# Altium footprint library PH2.54.PcbLib: 15 footprints
Each footprint in its own frame and in the unit in brackets; x right, y up, seen from the top. Pads: shape width x height; smd on the part's side, far side on the other; paste and mask are expansions set on the pad; w line width, h text height; cw(c..) or ccw(c..) is an arc to the next point about the centre after c.
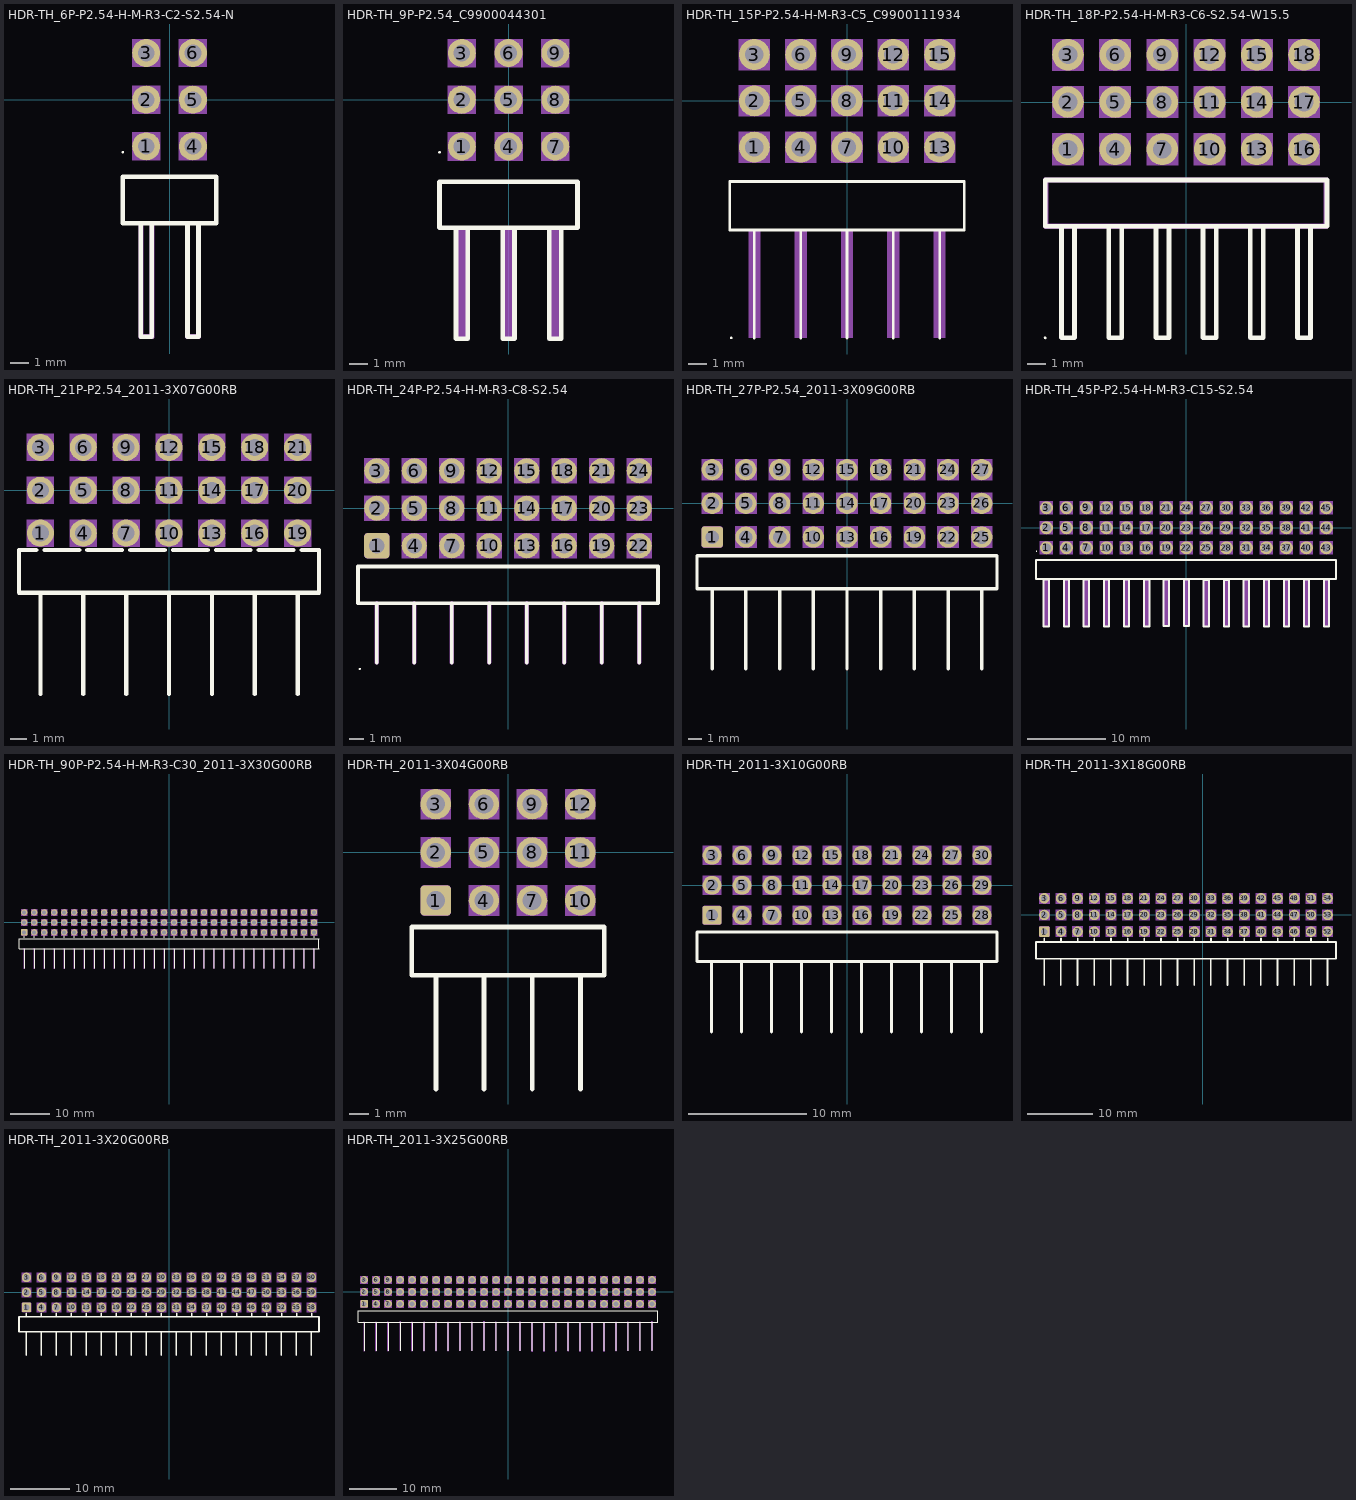
[diagram p0: the footprints below, top view; thin cyan lines are the x and y axes]

## HDR-TH_6P-P2.54-H-M-R3-C2-S2.54-N [mil] "2.54-3*2P; HDR 3x2; TH-3*2P-2.54"
height -35795.73
pads (6):
  round 60 hole 36 mask+1.97: 1(-50,-100) 2(-50,0) 3(-50,100) 4(50,-100) 5(50,0) 6(50,100)
Top Overlay:
  region: -97.64,-112.6 -97.68,-113.06 -97.82,-113.5 -98.04,-113.91 -98.33,-114.27 -98.69,-114.56 -99.1,-114.78 -99.54,-114.92 -100,-114.96 -100.46,-114.92 -100.9,-114.78 -101.31,-114.56 -101.67,-114.27 -101.96,-113.91 -102.18,-113.5 -102.32,-113.06 -102.36,-112.6 -102.32,-112.14 -102.18,-111.7 -101.96,-111.29 -101.67,-110.93 -101.31,-110.64 -100.9,-110.42 -100.46,-110.28 -100,-110.24 -99.54,-110.28 -99.1,-110.42 -98.69,-110.64 -98.33,-110.93 -98.04,-111.29 -97.82,-111.7 -97.68,-112.14
  lines w10: -61.42,-267.71 -61.42,-507.87 -37.8,-507.87 -37.8,-267.71 ; 38.58,-267.71 38.58,-507.87 62.2,-507.87 62.2,-267.71 ; -100,-265 -100,-165 100,-165 100,-265 -100,-265
Mechanical 2:
  drawing of 2 lines, arcs and shapes, not listed
Mechanical 9:
  region: -80,70 -20,70 -20,130 -80,130
  region: 20,70 80,70 80,130 20,130
  region: 20,-30 80,-30 80,30 20,30
  region: -80,-30 -20,-30 -20,30 -80,30
  region: -80,-130 -20,-130 -20,-70 -80,-70
  region: 20,-130 80,-130 80,-70 20,-70

## HDR-TH_9P-P2.54_C9900044301 [mil] "TH-3*3P-2.54; &#25554;&#20214;,P=2.54mm"
height -35795.73
pads (9):
  round 60 hole 36 mask+1.97: 1(-100,-100) 2(-100,0) 3(-100,100) 4(0,-100) 5(0,0) 6(0,100) 7(100,-100) 8(100,0) 9(100,100)
Top Overlay:
  region: -150,-112.59 -149.96,-113.05 -149.82,-113.49 -149.6,-113.9 -149.31,-114.26 -148.95,-114.55 -148.54,-114.77 -148.1,-114.9 -147.64,-114.95 -147.18,-114.9 -146.74,-114.77 -146.33,-114.55 -145.97,-114.26 -145.68,-113.9 -145.46,-113.49 -145.33,-113.05 -145.28,-112.59 -145.33,-112.13 -145.46,-111.68 -145.68,-111.28 -145.97,-110.92 -146.33,-110.62 -146.74,-110.41 -147.18,-110.27 -147.64,-110.23 -148.1,-110.27 -148.54,-110.41 -148.95,-110.62 -149.31,-110.92 -149.6,-111.28 -149.82,-111.68 -149.96,-112.13
  lines w10: -112.6,-274.8 -112.6,-511.02 -87.4,-511.02 -87.4,-274.41 ; -12.6,-274.8 -12.6,-511.02 12.6,-511.02 12.6,-274.41 ; 87.4,-274.8 87.4,-511.02 112.6,-511.02 112.6,-274.41 ; -147.64,-273.63 -147.64,-175.2 147.64,-175.2 147.64,-273.63 -147.64,-273.63
Mechanical 2:
  region: 87.8,-275.6 87.8,-511.82 113.39,-511.82 113.39,-275.6
  region: -12.2,-275.59 -12.2,-511.82 13.39,-511.82 13.39,-275.59
  region: -112.2,-275.59 -112.2,-511.81 -86.61,-511.81 -86.61,-275.59
Mechanical 9:
  region: -70,-130 -70,-70 -130,-70 -130,-130
  region: 30,-130 30,-70 -30,-70 -30,-130
  region: 130,-130 130,-70 70,-70 70,-130
  region: -70,-30 -70,30 -130,30 -130,-30
  region: 30,-30 30,30 -30,30 -30,-30
  region: 130,-30 130,30 70,30 70,-30
  region: -70,70 -70,130 -130,130 -130,70
  region: 30,70 30,130 -30,130 -30,70
  region: 130,70 130,130 70,130 70,70
3D body "HDR-TH_9P-P2.54_C9900044301.step": height 39.37, standoff 0, extent -147.64,-274.8 147.64,-174.8

## HDR-TH_15P-P2.54-H-M-R3-C5_C9900111934 [mm] "HDR-TH_15P-P2.54-H-M-R3-C5_C9900111934"
height -909.212
pads (15):
  round 1.7 hole 1 mask+0.05: 1(-5.08,-2.54) 2(-5.08,0) 3(-5.08,2.54) 4(-2.54,-2.54) 5(-2.54,0) 6(-2.54,2.54) 7(0,-2.54) 8(0,0) 9(0,2.54) 10(2.54,-2.54) 11(2.54,0) 12(2.54,2.54) 13(5.08,-2.54) 14(5.08,0) 15(5.08,2.54)
Top Overlay:
  region: -6.29,-13 -6.291,-12.988 -6.295,-12.977 -6.3,-12.967 -6.308,-12.958 -6.317,-12.95 -6.327,-12.945 -6.338,-12.941 -6.35,-12.94 -6.362,-12.941 -6.373,-12.945 -6.383,-12.95 -6.392,-12.958 -6.4,-12.967 -6.405,-12.977 -6.409,-12.988 -6.41,-13 -6.409,-13.012 -6.405,-13.023 -6.4,-13.033 -6.392,-13.042 -6.383,-13.05 -6.373,-13.055 -6.362,-13.059 -6.35,-13.06 -6.338,-13.059 -6.327,-13.055 -6.317,-13.05 -6.308,-13.042 -6.3,-13.033 -6.295,-13.023 -6.291,-13.012
  lines w0.152: -5.08,-13 -5.08,-7.152 ; -2.54,-13 -2.54,-7.152 ; 0,-13 0,-7.152 ; 2.54,-13 2.54,-7.152 ; 5.08,-13 5.08,-7.152 ; -6.426,-7.076 -6.426,-4.424 6.426,-4.424 6.426,-7.076 -6.426,-7.076
Mechanical 2:
  region: 4.76,-7.16 4.76,-13 5.4,-13 5.4,-7.16
  region: 2.22,-7.16 2.22,-13 2.86,-13 2.86,-7.16
  region: -0.32,-7.16 -0.32,-13 0.32,-13 0.32,-7.16
  region: -2.86,-7.16 -2.86,-13 -2.22,-13 -2.22,-7.16
  region: -5.4,-7.16 -5.4,-13 -4.76,-13 -4.76,-7.16
Mechanical 9:
  region: 4.23,1.69 5.93,1.69 5.93,3.39 4.23,3.39
  region: 4.23,-0.85 5.93,-0.85 5.93,0.85 4.23,0.85
  region: 4.23,-3.39 5.93,-3.39 5.93,-1.69 4.23,-1.69
  region: 1.69,1.69 3.39,1.69 3.39,3.39 1.69,3.39
  region: 1.69,-0.85 3.39,-0.85 3.39,0.85 1.69,0.85
  region: 1.69,-3.39 3.39,-3.39 3.39,-1.69 1.69,-1.69
  region: -0.85,1.69 0.85,1.69 0.85,3.39 -0.85,3.39
  region: -0.85,-0.85 0.85,-0.85 0.85,0.85 -0.85,0.85
  region: -0.85,-3.39 0.85,-3.39 0.85,-1.69 -0.85,-1.69
  region: -3.39,1.69 -1.69,1.69 -1.69,3.39 -3.39,3.39
  region: -3.39,-0.85 -1.69,-0.85 -1.69,0.85 -3.39,0.85
  region: -3.39,-3.39 -1.69,-3.39 -1.69,-1.69 -3.39,-1.69
  region: -5.93,1.69 -4.23,1.69 -4.23,3.39 -5.93,3.39
  region: -5.93,-0.85 -4.23,-0.85 -4.23,0.85 -5.93,0.85
  region: -5.93,-3.39 -4.23,-3.39 -4.23,-1.69 -5.93,-1.69
3D body "HDR-TH_15P-P2.54-H-M-R3-C5_C9900111934.step": height 1, standoff 0, extent -6.35,-7 6.35,-4.5

## HDR-TH_18P-P2.54-H-M-R3-C6-S2.54-W15.5 [mm] "TH-3*6P-2.54"
height -909.212
pads (18):
  round 1.7 hole 1 mask+0.05: 1(-6.35,-2.54) 2(-6.35,0) 3(-6.35,2.54) 4(-3.81,-2.54) 5(-3.81,0) 6(-3.81,2.54) 7(-1.27,-2.54) 8(-1.27,0) 9(-1.27,2.54) 10(1.27,-2.54) 11(1.27,0) 12(1.27,2.54) 13(3.81,-2.54) 14(3.81,0) 15(3.81,2.54) 16(6.35,-2.54) 17(6.35,0) 18(6.35,2.54)
Top Overlay:
  region: -7.52,-12.69 -7.521,-12.678 -7.524,-12.667 -7.53,-12.657 -7.537,-12.648 -7.547,-12.64 -7.557,-12.635 -7.568,-12.631 -7.58,-12.63 -7.592,-12.631 -7.603,-12.635 -7.613,-12.64 -7.622,-12.648 -7.63,-12.657 -7.635,-12.667 -7.639,-12.678 -7.64,-12.69 -7.639,-12.702 -7.635,-12.713 -7.63,-12.723 -7.622,-12.732 -7.613,-12.74 -7.603,-12.745 -7.592,-12.749 -7.58,-12.75 -7.568,-12.749 -7.557,-12.745 -7.547,-12.74 -7.537,-12.732 -7.53,-12.723 -7.524,-12.713 -7.521,-12.702
  lines w0.254: -6.7,-6.69 -6.7,-12.69 -6,-12.69 -6,-6.69 ; -4.16,-6.69 -4.16,-12.69 -3.46,-12.69 -3.46,-6.69 ; -1.62,-6.69 -1.62,-12.69 -0.92,-12.69 -0.92,-6.69 ; 0.92,-6.69 0.92,-12.69 1.62,-12.69 1.62,-6.69 ; 3.46,-6.69 3.46,-12.69 4.16,-12.69 4.16,-6.69 ; 6,-6.69 6,-12.69 6.7,-12.69 6.7,-6.69 ; -7.58,-6.69 7.58,-6.69 7.58,-4.19 -7.58,-4.19 -7.58,-6.69
Mechanical 2:
  region: -7.55,-6.563 7.423,-6.563 7.423,-4.317 -7.55,-4.317 -7.572,-4.315 -7.593,-4.309 -7.613,-4.3 -7.632,-4.287 -7.647,-4.272 -7.66,-4.253 -7.669,-4.233 -7.675,-4.212 -7.677,-4.19 -7.675,-4.168 -7.669,-4.147 -7.66,-4.126 -7.647,-4.108 -7.632,-4.093 -7.613,-4.08 -7.593,-4.071 -7.572,-4.065 -7.55,-4.063 7.55,-4.063 7.572,-4.065 7.593,-4.071 7.613,-4.08 7.632,-4.093 7.647,-4.108 7.66,-4.126 7.669,-4.147 7.675,-4.168 7.677,-4.19 7.677,-6.69 7.675,-6.712 7.669,-6.733 7.66,-6.753 7.647,-6.772 7.632,-6.787 7.613,-6.8 7.593,-6.809 7.572,-6.815 7.55,-6.817 -7.55,-6.817 -7.572,-6.815 -7.593,-6.809 -7.613,-6.8 -7.632,-6.787 -7.647,-6.772 -7.66,-6.753 -7.669,-6.733 -7.675,-6.712 -7.677,-6.69 -7.675,-6.668 -7.669,-6.647 -7.66,-6.626 -7.647,-6.608 -7.632,-6.593 -7.613,-6.58 -7.593,-6.571 -7.572,-6.565
  region: -7.423,-4.19 -7.423,-6.69 -7.425,-6.712 -7.431,-6.733 -7.44,-6.753 -7.453,-6.772 -7.468,-6.787 -7.486,-6.8 -7.507,-6.809 -7.528,-6.815 -7.55,-6.817 -7.572,-6.815 -7.593,-6.809 -7.613,-6.8 -7.632,-6.787 -7.647,-6.772 -7.66,-6.753 -7.669,-6.733 -7.675,-6.712 -7.677,-6.69 -7.677,-4.19 -7.675,-4.168 -7.669,-4.147 -7.66,-4.126 -7.647,-4.108 -7.632,-4.093 -7.613,-4.08 -7.593,-4.071 -7.572,-4.065 -7.55,-4.063 -7.528,-4.065 -7.507,-4.071 -7.486,-4.08 -7.468,-4.093 -7.453,-4.108 -7.44,-4.126 -7.431,-4.147 -7.425,-4.168
Mechanical 9:
  region: -7.2,-3.39 -5.5,-3.39 -5.5,-1.69 -7.2,-1.69
  region: -7.2,-0.85 -5.5,-0.85 -5.5,0.85 -7.2,0.85
  region: -7.2,1.69 -5.5,1.69 -5.5,3.39 -7.2,3.39
  region: -4.66,-3.39 -2.96,-3.39 -2.96,-1.69 -4.66,-1.69
  region: -4.66,-0.85 -2.96,-0.85 -2.96,0.85 -4.66,0.85
  region: -4.66,1.69 -2.96,1.69 -2.96,3.39 -4.66,3.39
  region: -2.12,-3.39 -0.42,-3.39 -0.42,-1.69 -2.12,-1.69
  region: -2.12,-0.85 -0.42,-0.85 -0.42,0.85 -2.12,0.85
  region: -2.12,1.69 -0.42,1.69 -0.42,3.39 -2.12,3.39
  region: 0.42,-3.39 2.12,-3.39 2.12,-1.69 0.42,-1.69
  region: 0.42,-0.85 2.12,-0.85 2.12,0.85 0.42,0.85
  region: 0.42,1.69 2.12,1.69 2.12,3.39 0.42,3.39
  region: 2.96,-3.39 4.66,-3.39 4.66,-1.69 2.96,-1.69
  region: 2.96,-0.85 4.66,-0.85 4.66,0.85 2.96,0.85
  region: 2.96,1.69 4.66,1.69 4.66,3.39 2.96,3.39
  region: 5.5,-3.39 7.2,-3.39 7.2,-1.69 5.5,-1.69
  region: 5.5,-0.85 7.2,-0.85 7.2,0.85 5.5,0.85
  region: 5.5,1.69 7.2,1.69 7.2,3.39 5.5,3.39
3D body "HDR-TH_18P-P2.54-H-M-R3-C6-S2.54-W15.5.step": height 1, standoff 0, extent -7.58,-6.69 7.58,-4.19

## HDR-TH_21P-P2.54_2011-3X07G00RB [mm] "HDR-TH_21P-P2.54_2011-3X07G00RB"
height -909.212
pads (21):
  round 1.6 hole 1 mask+0.05: 1(-7.62,-2.54) 2(-7.62,0) 3(-7.62,2.54) 4(-5.08,-2.54) 5(-5.08,0) 6(-5.08,2.54) 7(-2.54,-2.54) 8(-2.54,0) 9(-2.54,2.54) 10(0,-2.54) 11(0,0) 12(0,2.54) 13(2.54,-2.54) 14(2.54,0) 15(2.54,2.54) 16(5.08,-2.54) 17(5.08,0) 18(5.08,2.54) 19(7.62,-2.54) 20(7.62,0) 21(7.62,2.54)
Top Overlay:
  lines w0.254: -7.863,-3.54 -8.89,-3.54 -8.89,-6.08 8.89,-6.08 8.89,-3.54 7.863,-3.54 ; -7.614,-12.08 -7.614,-6.08 ; -7.377,-3.54 -5.323,-3.54 ; -5.074,-12.08 -5.074,-6.08 ; -4.837,-3.54 -2.783,-3.54 ; -2.534,-12.08 -2.534,-6.08 ; -2.297,-3.54 -0.243,-3.54 ; 0.006,-12.08 0.006,-6.08 ; 0.243,-3.54 2.297,-3.54 ; 2.546,-12.08 2.546,-6.08 ; 2.783,-3.54 4.837,-3.54 ; 5.086,-12.08 5.086,-6.08 ; 5.323,-3.54 7.377,-3.54 ; 7.626,-12.08 7.626,-6.08
Mechanical 9:
  region: 6.82,1.74 8.42,1.74 8.42,3.34 6.82,3.34
  region: 6.82,-0.8 8.42,-0.8 8.42,0.8 6.82,0.8
  region: 6.82,-3.34 8.42,-3.34 8.42,-1.74 6.82,-1.74
  region: 4.28,1.74 5.88,1.74 5.88,3.34 4.28,3.34
  region: 4.28,-0.8 5.88,-0.8 5.88,0.8 4.28,0.8
  region: 4.28,-3.34 5.88,-3.34 5.88,-1.74 4.28,-1.74
  region: 1.74,1.74 3.34,1.74 3.34,3.34 1.74,3.34
  region: 1.74,-0.8 3.34,-0.8 3.34,0.8 1.74,0.8
  region: 1.74,-3.34 3.34,-3.34 3.34,-1.74 1.74,-1.74
  region: -0.8,1.74 0.8,1.74 0.8,3.34 -0.8,3.34
  region: -0.8,-0.8 0.8,-0.8 0.8,0.8 -0.8,0.8
  region: -0.8,-3.34 0.8,-3.34 0.8,-1.74 -0.8,-1.74
  region: -3.34,1.74 -1.74,1.74 -1.74,3.34 -3.34,3.34
  region: -3.34,-0.8 -1.74,-0.8 -1.74,0.8 -3.34,0.8
  region: -3.34,-3.34 -1.74,-3.34 -1.74,-1.74 -3.34,-1.74
  region: -5.88,1.74 -4.28,1.74 -4.28,3.34 -5.88,3.34
  region: -5.88,-0.8 -4.28,-0.8 -4.28,0.8 -5.88,0.8
  region: -5.88,-3.34 -4.28,-3.34 -4.28,-1.74 -5.88,-1.74
  region: -8.42,1.74 -6.82,1.74 -6.82,3.34 -8.42,3.34
  region: -8.42,-0.8 -6.82,-0.8 -6.82,0.8 -8.42,0.8
  region: -8.42,-3.34 -6.82,-3.34 -6.82,-1.74 -8.42,-1.74

## HDR-TH_24P-P2.54-H-M-R3-C8-S2.54 [mm] "HDR-TH_24P-P2.54-H-M-R3-C8-S2.54"
height -909.212
pads (24):
  rrect25% 1.7x1.7 hole 1.02 mask+0.05: 1(-8.89,-2.54)
  round 1.7 hole 1.02 mask+0.05: 2(-8.89,0) 3(-8.89,2.54) 4(-6.35,-2.54) 5(-6.35,0) 6(-6.35,2.54) 7(-3.81,-2.54) 8(-3.81,0) 9(-3.81,2.54) 10(-1.27,-2.54) 11(-1.27,0) 12(-1.27,2.54) 13(1.27,-2.54) 14(1.27,0) 15(1.27,2.54) 16(3.81,-2.54) 17(3.81,0) 18(3.81,2.54) 19(6.35,-2.54) 20(6.35,0) 21(6.35,2.54) 22(8.89,-2.54) 23(8.89,0) 24(8.89,2.54)
Top Overlay:
  region: -9.975,-10.88 -9.976,-10.868 -9.98,-10.857 -9.985,-10.847 -9.993,-10.838 -10.002,-10.83 -10.012,-10.825 -10.023,-10.821 -10.035,-10.82 -10.047,-10.821 -10.058,-10.825 -10.068,-10.83 -10.077,-10.838 -10.085,-10.847 -10.09,-10.857 -10.094,-10.868 -10.095,-10.88 -10.094,-10.892 -10.09,-10.903 -10.085,-10.913 -10.077,-10.922 -10.068,-10.93 -10.058,-10.935 -10.047,-10.939 -10.035,-10.94 -10.023,-10.939 -10.012,-10.935 -10.002,-10.93 -9.993,-10.922 -9.985,-10.913 -9.98,-10.903 -9.976,-10.892
  lines w0.254: -8.892,-10.44 -8.892,-6.44 ; -6.352,-10.44 -6.352,-6.44 ; -3.812,-10.44 -3.812,-6.44 ; -1.272,-10.44 -1.272,-6.44 ; 1.268,-10.44 1.268,-6.44 ; 3.808,-10.44 3.808,-6.44 ; 6.348,-10.44 6.348,-6.44 ; 8.888,-10.44 8.888,-6.44 ; -10.16,-6.44 -10.16,-3.94 10.16,-3.94 10.16,-6.44 -10.16,-6.44
Mechanical 2:
  drawing of 8 lines, arcs and shapes, not listed
Mechanical 9:
  drawing of 24 lines, arcs and shapes, not listed
3D body "HDR-TH_24P-P2.54-H-M-R3-C8-S2.54.step": height 1, standoff 0, extent -10.035,-6.44 10.035,-3.94

## HDR-TH_27P-P2.54_2011-3X09G00RB [mm] "HDR-TH_27P-P2.54_2011-3X09G00RB"
height -909.212
pads (27):
  rrect25% 1.6x1.6 hole 1.02 mask+0.05: 1(-10.16,-2.54)
  round 1.6 hole 1.02 mask+0.05: 2(-10.16,0) 3(-10.16,2.54) 4(-7.62,-2.54) 5(-7.62,0) 6(-7.62,2.54) 7(-5.08,-2.54) 8(-5.08,0) 9(-5.08,2.54) 10(-2.54,-2.54) 11(-2.54,0) 12(-2.54,2.54) 13(0,-2.54) 14(0,0) 15(0,2.54) 16(2.54,-2.54) 17(2.54,0) 18(2.54,2.54) 19(5.08,-2.54) 20(5.08,0) 21(5.08,2.54) 22(7.62,-2.54) 23(7.62,0) 24(7.62,2.54) 25(10.16,-2.54) 26(10.16,0) 27(10.16,2.54)
Top Overlay:
  lines w0.254: -10.16,-12.48 -10.16,-6.48 ; -7.62,-12.48 -7.62,-6.48 ; -5.08,-12.48 -5.08,-6.48 ; -2.54,-12.48 -2.54,-6.48 ; 0,-12.48 0,-6.48 ; 2.54,-12.48 2.54,-6.48 ; 5.08,-12.48 5.08,-6.48 ; 7.62,-12.48 7.62,-6.48 ; 10.16,-12.48 10.16,-6.48 ; -11.305,-6.44 -11.305,-3.94 11.305,-3.94 11.305,-6.44 -11.305,-6.44
Mechanical 9:
  drawing of 27 lines, arcs and shapes, not listed

## HDR-TH_45P-P2.54-H-M-R3-C15-S2.54 [mm] "3*15 2.54 3&#25490;&#24367;&#38024;; dip45-2_54"
height -909.212
pads (45):
  round 1.65 hole 1.1 mask+0.05: 1(-17.78,-2.54) 2(-17.78,0) 3(-17.78,2.54) 4(-15.24,-2.54) 5(-15.24,0) 6(-15.24,2.54) 7(-12.7,-2.54) 8(-12.7,0) 9(-12.7,2.54) 10(-10.16,-2.54) 11(-10.16,0) 12(-10.16,2.54) 13(-7.62,-2.54) 14(-7.62,0) 15(-7.62,2.54) 16(-5.08,-2.54) 17(-5.08,0) 18(-5.08,2.54) 19(-2.54,-2.54) 20(-2.54,0) 21(-2.54,2.54) 22(0,-2.54) 23(0,0) 24(0,2.54) 25(2.54,-2.54) 26(2.54,0) 27(2.54,2.54) 28(5.08,-2.54) 29(5.08,0) 30(5.08,2.54) 31(7.62,-2.54) 32(7.62,0) 33(7.62,2.54) 34(10.16,-2.54) 35(10.16,0) 36(10.16,2.54) 37(12.7,-2.54) 38(12.7,0) 39(12.7,2.54) 40(15.24,-2.54) 41(15.24,0) 42(15.24,2.54) 43(17.78,-2.54) 44(17.78,0) 45(17.78,2.54)
Top Overlay:
  region: -18.99,-2.995 -18.991,-2.984 -18.995,-2.972 -19,-2.962 -19.008,-2.953 -19.017,-2.946 -19.027,-2.94 -19.038,-2.937 -19.05,-2.935 -19.062,-2.937 -19.073,-2.94 -19.083,-2.946 -19.092,-2.953 -19.1,-2.962 -19.105,-2.972 -19.109,-2.984 -19.11,-2.995 -19.109,-3.007 -19.105,-3.018 -19.1,-3.029 -19.092,-3.038 -19.083,-3.045 -19.073,-3.051 -19.062,-3.054 -19.05,-3.055 -19.038,-3.054 -19.027,-3.051 -19.017,-3.045 -19.008,-3.038 -19,-3.029 -18.995,-3.018 -18.991,-3.007
  lines w0.254: -19.1,-6.505 -19.1,-4.105 19,-4.105 19,-6.505 -19,-6.505 ; -18.13,-12.545 -17.47,-12.545 -17.47,-6.585 -18.13,-6.585 -18.13,-12.545 ; -15.57,-12.545 -14.89,-12.545 -14.89,-6.585 -15.57,-6.585 -15.57,-12.545 ; -13.05,-12.525 -12.39,-12.525 -12.39,-6.565 -13.05,-6.565 -13.05,-12.525 ; -10.49,-12.525 -9.81,-12.525 -9.81,-6.565 -10.49,-6.565 -10.49,-12.525 ; -7.95,-12.525 -7.29,-12.525 -7.29,-6.565 -7.95,-6.565 -7.95,-12.525 ; -5.39,-12.525 -4.71,-12.525 -4.71,-6.565 -5.39,-6.565 -5.39,-12.525 ; -2.89,-12.505 -2.23,-12.505 -2.23,-6.545 -2.89,-6.545 -2.89,-12.505 ; -0.33,-12.505 0.35,-12.505 0.35,-6.545 -0.33,-6.545 -0.33,-12.505 ; 2.19,-12.565 2.85,-12.565 2.85,-6.605 2.19,-6.605 2.19,-12.565 ; 4.75,-12.565 5.43,-12.565 5.43,-6.605 4.75,-6.605 4.75,-12.565 ; 7.27,-12.545 7.93,-12.545 7.93,-6.585 7.27,-6.585 7.27,-12.545 ; 9.83,-12.545 10.51,-12.545 10.51,-6.585 9.83,-6.585 9.83,-12.545 ; 12.37,-12.545 13.05,-12.545 13.05,-6.585 12.37,-6.585 12.37,-12.545 ; 14.91,-12.545 15.59,-12.545 15.59,-6.585 14.91,-6.585 14.91,-12.545 ; 17.45,-12.545 18.13,-12.545 18.13,-6.585 17.45,-6.585 17.45,-12.545
Mechanical 2:
  region: -18.11,-12.505 -17.51,-12.505 -17.51,-6.605 -18.11,-6.605
  region: -15.57,-12.505 -14.97,-12.505 -14.97,-6.605 -15.57,-6.605
  region: -13.03,-12.505 -12.43,-12.505 -12.43,-6.605 -13.03,-6.605
  region: -10.49,-12.505 -9.89,-12.505 -9.89,-6.605 -10.49,-6.605
  region: -7.95,-12.505 -7.35,-12.505 -7.35,-6.605 -7.95,-6.605
  region: -5.41,-12.505 -4.81,-12.505 -4.81,-6.605 -5.41,-6.605
  region: -2.87,-12.505 -2.27,-12.505 -2.27,-6.605 -2.87,-6.605
  region: -0.33,-12.505 0.27,-12.505 0.27,-6.605 -0.33,-6.605
  region: 2.21,-12.505 2.81,-12.505 2.81,-6.605 2.21,-6.605
  region: 4.75,-12.505 5.35,-12.505 5.35,-6.605 4.75,-6.605
  region: 7.29,-12.505 7.89,-12.505 7.89,-6.605 7.29,-6.605
  region: 9.83,-12.505 10.43,-12.505 10.43,-6.605 9.83,-6.605
  region: 12.37,-12.505 12.97,-12.505 12.97,-6.605 12.37,-6.605
  region: 14.91,-12.505 15.51,-12.505 15.51,-6.605 14.91,-6.605
  region: 17.45,-12.505 18.05,-12.505 18.05,-6.605 17.45,-6.605
Mechanical 9:
  drawing of 45 lines, arcs and shapes, not listed

## HDR-TH_90P-P2.54-H-M-R3-C30_2011-3X30G00RB [mm] "HDR-TH_90P-P2.54-H-M-R3-C30_2011-3X30G00RB"
height -909.212
pads (90):
  rrect25% 1.6x1.6 hole 1.02 mask+0.05: 1(-36.83,-2.54)
  round 1.6 hole 1.02 mask+0.05: 2(-36.83,0) 3(-36.83,2.54) 4(-34.29,-2.54) 5(-34.29,0) 6(-34.29,2.54) 7(-31.75,-2.54) 8(-31.75,0) 9(-31.75,2.54) 10(-29.21,-2.54) 11(-29.21,0) 12(-29.21,2.54) 13(-26.67,-2.54) 14(-26.67,0) 15(-26.67,2.54) 16(-24.13,-2.54) 17(-24.13,0) 18(-24.13,2.54) 19(-21.59,-2.54) 20(-21.59,0) 21(-21.59,2.54) 22(-19.05,-2.54) 23(-19.05,0) 24(-19.05,2.54) 25(-16.51,-2.54) 26(-16.51,0) 27(-16.51,2.54) 28(-13.97,-2.54) 29(-13.97,0) 30(-13.97,2.54) 31(-11.43,-2.54) 32(-11.43,0) 33(-11.43,2.54) 34(-8.89,-2.54) 35(-8.89,0) 36(-8.89,2.54) 37(-6.35,-2.54) 38(-6.35,0) 39(-6.35,2.54) 40(-3.81,-2.54) 41(-3.81,0) 42(-3.81,2.54) 43(-1.27,-2.54) 44(-1.27,0) 45(-1.27,2.54) 46(1.27,-2.54) 47(1.27,0) 48(1.27,2.54) 49(3.81,-2.54) 50(3.81,0) 51(3.81,2.54) 52(6.35,-2.54) 53(6.35,0) 54(6.35,2.54) 55(8.89,-2.54) 56(8.89,0) 57(8.89,2.54) 58(11.43,-2.54) 59(11.43,0) 60(11.43,2.54) 61(13.97,-2.54) 62(13.97,0) 63(13.97,2.54) 64(16.51,-2.54) 65(16.51,0) 66(16.51,2.54) 67(19.05,-2.54) 68(19.05,0) 69(19.05,2.54) 70(21.59,-2.54) 71(21.59,0) 72(21.59,2.54) 73(24.13,-2.54) 74(24.13,0) 75(24.13,2.54) 76(26.67,-2.54) 77(26.67,0) 78(26.67,2.54) 79(29.21,-2.54) 80(29.21,0) 81(29.21,2.54) 82(31.75,-2.54) 83(31.75,0) 84(31.75,2.54) 85(34.29,-2.54) 86(34.29,0) 87(34.29,2.54) 88(36.83,-2.54) 89(36.83,0) 90(36.83,2.54)
Top Overlay:
  region: -38.04,-11.664 -38.041,-11.652 -38.045,-11.641 -38.05,-11.631 -38.058,-11.622 -38.067,-11.614 -38.077,-11.609 -38.088,-11.605 -38.1,-11.604 -38.112,-11.605 -38.123,-11.609 -38.133,-11.614 -38.142,-11.622 -38.15,-11.631 -38.155,-11.641 -38.159,-11.652 -38.16,-11.664 -38.159,-11.676 -38.155,-11.687 -38.15,-11.697 -38.142,-11.706 -38.133,-11.714 -38.123,-11.719 -38.112,-11.723 -38.1,-11.724 -38.088,-11.723 -38.077,-11.719 -38.067,-11.714 -38.058,-11.706 -38.05,-11.697 -38.045,-11.687 -38.041,-11.676
  lines w0.254: -36.853,-11.664 -36.853,-6.664 ; -36.83,-3.937 -36.83,-3.571 ; -34.313,-11.664 -34.313,-6.664 ; -34.29,-3.937 -34.29,-3.571 ; -31.773,-11.664 -31.773,-6.664 ; -31.75,-3.937 -31.75,-3.571 ; -29.234,-11.664 -29.234,-6.664 ; -29.21,-3.937 -29.21,-3.571 ; -26.694,-11.664 -26.694,-6.664 ; -26.67,-3.937 -26.67,-3.571 ; -24.154,-11.664 -24.154,-6.664 ; -24.13,-3.937 -24.13,-3.571 ; -21.614,-11.664 -21.614,-6.664 ; -21.59,-3.937 -21.59,-3.571 ; -19.074,-11.664 -19.074,-6.664 ; -19.05,-3.937 -19.05,-3.571 ; -16.534,-11.664 -16.534,-6.664 ; -16.51,-3.937 -16.51,-3.571 ; -13.994,-11.664 -13.994,-6.664 ; -13.97,-3.937 -13.97,-3.571 ; -11.454,-11.664 -11.454,-6.664 ; -11.43,-3.937 -11.43,-3.571 ; -8.914,-11.664 -8.914,-6.664 ; -8.89,-3.937 -8.89,-3.571 ; -6.374,-11.664 -6.374,-6.664 ; -6.35,-3.937 -6.35,-3.571 ; -3.834,-11.664 -3.834,-6.664 ; -3.81,-3.937 -3.81,-3.571 ; -1.294,-11.664 -1.294,-6.664 ; -1.27,-3.937 -1.27,-3.571 ; 1.246,-11.664 1.246,-6.664 ; 1.27,-3.937 1.27,-3.571 ; 3.786,-11.664 3.786,-6.664 ; 3.81,-3.937 3.81,-3.571 ; 6.326,-11.664 6.326,-6.664 ; 6.35,-3.937 6.35,-3.571 ; 8.866,-11.664 8.866,-6.664 ; 8.89,-3.937 8.89,-3.571 ; 11.406,-11.664 11.406,-6.664 ; 11.43,-3.937 11.43,-3.571 ; 13.946,-11.664 13.946,-6.664 ; 13.97,-3.937 13.97,-3.571 ; 16.486,-11.664 16.486,-6.664 ; 16.51,-3.937 16.51,-3.571 ; 19.026,-11.664 19.026,-6.664 ; 19.05,-3.937 19.05,-3.571 ; 21.566,-11.664 21.566,-6.664 ; 21.59,-3.937 21.59,-3.571 ; 24.106,-11.664 24.106,-6.664 ; 24.13,-3.937 24.13,-3.571 ; 26.646,-11.664 26.646,-6.664 ; 26.67,-3.937 26.67,-3.571 ; 29.186,-11.664 29.186,-6.664 ; 29.21,-3.937 29.21,-3.571 ; 31.726,-11.664 31.726,-6.664 ; 31.75,-3.937 31.75,-3.571 ; 34.266,-11.664 34.266,-6.664 ; 34.29,-3.937 34.29,-3.571 ; 36.806,-11.664 36.806,-6.664 ; 36.83,-3.937 36.83,-3.571 ; -38.1,-6.664 38.1,-6.664 38.1,-4.124 -38.1,-4.124 -38.1,-6.664
Mechanical 2:
  drawing of 30 lines, arcs and shapes, not listed
Mechanical 9:
  drawing of 90 lines, arcs and shapes, not listed

## HDR-TH_2011-3X04G00RB [mm] "HDR-TH_2011-3X04G00RB"
height -909.212
pads (12):
  rrect25% 1.6x1.6 hole 1 mask+0.05: 1(-3.81,-2.54)
  round 1.6 hole 1 mask+0.05: 2(-3.81,0) 3(-3.81,2.54) 4(-1.27,-2.54) 5(-1.27,0) 6(-1.27,2.54) 7(1.27,-2.54) 8(1.27,0) 9(1.27,2.54) 10(3.81,-2.54) 11(3.81,0) 12(3.81,2.54)
Top Overlay:
  lines w0.254: -3.804,-12.48 -3.804,-6.48 ; -1.264,-12.48 -1.264,-6.48 ; 1.276,-12.48 1.276,-6.48 ; 3.816,-12.48 3.816,-6.48 ; -5.08,-6.48 5.08,-6.48 5.08,-3.94 -5.08,-3.94 -5.08,-6.48
Mechanical 9:
  region: -4.41,-3.34 -3.21,-3.34 -3.171,-3.336 -3.133,-3.325 -3.099,-3.306 -3.069,-3.281 -3.044,-3.251 -3.025,-3.217 -3.014,-3.179 -3.01,-3.14 -3.01,-1.94 -3.014,-1.901 -3.025,-1.863 -3.044,-1.829 -3.069,-1.799 -3.099,-1.774 -3.133,-1.755 -3.171,-1.744 -3.21,-1.74 -4.41,-1.74 -4.449,-1.744 -4.487,-1.755 -4.521,-1.774 -4.551,-1.799 -4.576,-1.829 -4.595,-1.863 -4.606,-1.901 -4.61,-1.94 -4.61,-3.14 -4.606,-3.179 -4.595,-3.217 -4.576,-3.251 -4.551,-3.281 -4.521,-3.306 -4.487,-3.325 -4.449,-3.336 -4.41,-3.34
  region: -4.61,-0.8 -3.01,-0.8 -3.01,0.8 -4.61,0.8
  region: -4.61,1.74 -3.01,1.74 -3.01,3.34 -4.61,3.34
  region: -2.07,-3.34 -0.47,-3.34 -0.47,-1.74 -2.07,-1.74
  region: -2.07,-0.8 -0.47,-0.8 -0.47,0.8 -2.07,0.8
  region: -2.07,1.74 -0.47,1.74 -0.47,3.34 -2.07,3.34
  region: 0.47,-3.34 2.07,-3.34 2.07,-1.74 0.47,-1.74
  region: 0.47,-0.8 2.07,-0.8 2.07,0.8 0.47,0.8
  region: 0.47,1.74 2.07,1.74 2.07,3.34 0.47,3.34
  region: 3.01,-3.34 4.61,-3.34 4.61,-1.74 3.01,-1.74
  region: 3.01,-0.8 4.61,-0.8 4.61,0.8 3.01,0.8
  region: 3.01,1.74 4.61,1.74 4.61,3.34 3.01,3.34

## HDR-TH_2011-3X10G00RB [mm] "HDR-TH_2011-3X10G00RB"
height -909.212
pads (30):
  rrect25% 1.6x1.6 hole 1.02 mask+0.05: 1(-11.43,-2.54)
  round 1.6 hole 1.02 mask+0.05: 2(-11.43,0) 3(-11.43,2.54) 4(-8.89,-2.54) 5(-8.89,0) 6(-8.89,2.54) 7(-6.35,-2.54) 8(-6.35,0) 9(-6.35,2.54) 10(-3.81,-2.54) 11(-3.81,0) 12(-3.81,2.54) 13(-1.27,-2.54) 14(-1.27,0) 15(-1.27,2.54) 16(1.27,-2.54) 17(1.27,0) 18(1.27,2.54) 19(3.81,-2.54) 20(3.81,0) 21(3.81,2.54) 22(6.35,-2.54) 23(6.35,0) 24(6.35,2.54) 25(8.89,-2.54) 26(8.89,0) 27(8.89,2.54) 28(11.43,-2.54) 29(11.43,0) 30(11.43,2.54)
Top Overlay:
  lines w0.254: -11.453,-12.441 -11.453,-6.441 ; -8.913,-12.441 -8.913,-6.441 ; -6.373,-12.441 -6.373,-6.441 ; -3.834,-12.441 -3.834,-6.441 ; -1.294,-12.441 -1.294,-6.441 ; 1.246,-12.441 1.246,-6.441 ; 3.786,-12.441 3.786,-6.441 ; 6.326,-12.441 6.326,-6.441 ; 8.866,-12.441 8.866,-6.441 ; 11.406,-12.441 11.406,-6.441 ; -12.7,-6.441 -12.7,-3.941 12.7,-3.941 12.7,-6.441 -12.7,-6.441
Mechanical 9:
  drawing of 30 lines, arcs and shapes, not listed

## HDR-TH_2011-3X18G00RB [mm]
pads (54):
  rrect25% 1.6x1.6 hole 1.02 mask+0.05: 1(-24.13,-2.54)
  round 1.6 hole 1.02 mask+0.05: 2(-24.13,0) 3(-24.13,2.54) 4(-21.59,-2.54) 5(-21.59,0) 6(-21.59,2.54) 7(-19.05,-2.54) 8(-19.05,0) 9(-19.05,2.54) 10(-16.51,-2.54) 11(-16.51,0) 12(-16.51,2.54) 13(-13.97,-2.54) 14(-13.97,0) 15(-13.97,2.54) 16(-11.43,-2.54) 17(-11.43,0) 18(-11.43,2.54) 19(-8.89,-2.54) 20(-8.89,0) 21(-8.89,2.54) 22(-6.35,-2.54) 23(-6.35,0) 24(-6.35,2.54) 25(-3.81,-2.54) 26(-3.81,0) 27(-3.81,2.54) 28(-1.27,-2.54) 29(-1.27,0) 30(-1.27,2.54) 31(1.27,-2.54) 32(1.27,0) 33(1.27,2.54) 34(3.81,-2.54) 35(3.81,0) 36(3.81,2.54) 37(6.35,-2.54) 38(6.35,0) 39(6.35,2.54) 40(8.89,-2.54) 41(8.89,0) 42(8.89,2.54) 43(11.43,-2.54) 44(11.43,0) 45(11.43,2.54) 46(13.97,-2.54) 47(13.97,0) 48(13.97,2.54) 49(16.51,-2.54) 50(16.51,0) 51(16.51,2.54) 52(19.05,-2.54) 53(19.05,0) 54(19.05,2.54)
Top Overlay:
  lines w0.254: -24.153,-10.664 -24.153,-6.664 ; -24.13,-3.937 -24.13,-3.571 ; -21.613,-10.664 -21.613,-6.664 ; -21.59,-3.937 -21.59,-3.571 ; -19.073,-10.664 -19.073,-6.664 ; -19.05,-3.937 -19.05,-3.571 ; -16.534,-10.664 -16.534,-6.664 ; -16.51,-3.937 -16.51,-3.571 ; -13.994,-10.664 -13.994,-6.664 ; -13.97,-3.937 -13.97,-3.571 ; -11.454,-10.664 -11.454,-6.664 ; -11.43,-3.937 -11.43,-3.571 ; -8.914,-10.664 -8.914,-6.664 ; -8.89,-3.937 -8.89,-3.571 ; -6.374,-10.664 -6.374,-6.664 ; -6.35,-3.937 -6.35,-3.571 ; -3.834,-10.664 -3.834,-6.664 ; -3.81,-3.937 -3.81,-3.571 ; -1.294,-10.664 -1.294,-6.664 ; -1.27,-3.937 -1.27,-3.571 ; 1.246,-10.664 1.246,-6.664 ; 1.27,-3.937 1.27,-3.571 ; 3.786,-10.664 3.786,-6.664 ; 3.81,-3.937 3.81,-3.571 ; 6.326,-10.664 6.326,-6.664 ; 6.35,-3.937 6.35,-3.571 ; 8.866,-10.664 8.866,-6.664 ; 8.89,-3.937 8.89,-3.571 ; 11.406,-10.664 11.406,-6.664 ; 11.43,-3.937 11.43,-3.571 ; 13.946,-10.664 13.946,-6.664 ; 13.97,-3.937 13.97,-3.571 ; 16.486,-10.664 16.486,-6.664 ; 16.51,-3.937 16.51,-3.571 ; 19.026,-10.664 19.026,-6.664 ; 19.05,-3.937 19.05,-3.571 ; -25.4,-6.664 -25.4,-4.124 20.32,-4.124 20.32,-6.664 -25.4,-6.664
Mechanical 9:
  drawing of 54 lines, arcs and shapes, not listed

## HDR-TH_2011-3X20G00RB [mm] "HDR-TH_2011-3X20G00RB"
height -909.212
pads (60):
  rrect25% 1.6x1.6 hole 1.02 mask+0.05: 1(-24.13,-2.54)
  round 1.6 hole 1.02 mask+0.05: 2(-24.13,0) 3(-24.13,2.54) 4(-21.59,-2.54) 5(-21.59,0) 6(-21.59,2.54) 7(-19.05,-2.54) 8(-19.05,0) 9(-19.05,2.54) 10(-16.51,-2.54) 11(-16.51,0) 12(-16.51,2.54) 13(-13.97,-2.54) 14(-13.97,0) 15(-13.97,2.54) 16(-11.43,-2.54) 17(-11.43,0) 18(-11.43,2.54) 19(-8.89,-2.54) 20(-8.89,0) 21(-8.89,2.54) 22(-6.35,-2.54) 23(-6.35,0) 24(-6.35,2.54) 25(-3.81,-2.54) 26(-3.81,0) 27(-3.81,2.54) 28(-1.27,-2.54) 29(-1.27,0) 30(-1.27,2.54) 31(1.27,-2.54) 32(1.27,0) 33(1.27,2.54) 34(3.81,-2.54) 35(3.81,0) 36(3.81,2.54) 37(6.35,-2.54) 38(6.35,0) 39(6.35,2.54) 40(8.89,-2.54) 41(8.89,0) 42(8.89,2.54) 43(11.43,-2.54) 44(11.43,0) 45(11.43,2.54) 46(13.97,-2.54) 47(13.97,0) 48(13.97,2.54) 49(16.51,-2.54) 50(16.51,0) 51(16.51,2.54) 52(19.05,-2.54) 53(19.05,0) 54(19.05,2.54) 55(21.59,-2.54) 56(21.59,0) 57(21.59,2.54) 58(24.13,-2.54) 59(24.13,0) 60(24.13,2.54)
Top Overlay:
  lines w0.254: -24.153,-10.664 -24.153,-6.664 ; -24.13,-3.937 -24.13,-3.571 ; -21.613,-10.664 -21.613,-6.664 ; -21.59,-3.937 -21.59,-3.571 ; -19.073,-10.664 -19.073,-6.664 ; -19.05,-3.937 -19.05,-3.571 ; -16.534,-10.664 -16.534,-6.664 ; -16.51,-3.937 -16.51,-3.571 ; -13.994,-10.664 -13.994,-6.664 ; -13.97,-3.937 -13.97,-3.571 ; -11.454,-10.664 -11.454,-6.664 ; -11.43,-3.937 -11.43,-3.571 ; -8.914,-10.664 -8.914,-6.664 ; -8.89,-3.937 -8.89,-3.571 ; -6.374,-10.664 -6.374,-6.664 ; -6.35,-3.937 -6.35,-3.571 ; -3.834,-10.664 -3.834,-6.664 ; -3.81,-3.937 -3.81,-3.571 ; -1.294,-10.664 -1.294,-6.664 ; -1.27,-3.937 -1.27,-3.571 ; 1.246,-10.664 1.246,-6.664 ; 1.27,-3.937 1.27,-3.571 ; 3.786,-10.664 3.786,-6.664 ; 3.81,-3.937 3.81,-3.571 ; 6.326,-10.664 6.326,-6.664 ; 6.35,-3.937 6.35,-3.571 ; 8.866,-10.664 8.866,-6.664 ; 8.89,-3.937 8.89,-3.571 ; 11.406,-10.664 11.406,-6.664 ; 11.43,-3.937 11.43,-3.571 ; 13.946,-10.664 13.946,-6.664 ; 13.97,-3.937 13.97,-3.571 ; 16.486,-10.664 16.486,-6.664 ; 16.51,-3.937 16.51,-3.571 ; 19.026,-10.664 19.026,-6.664 ; 19.05,-3.937 19.05,-3.571 ; 21.566,-10.664 21.566,-6.664 ; 21.59,-3.937 21.59,-3.571 ; 24.106,-10.664 24.106,-6.664 ; 24.13,-3.937 24.13,-3.571 ; -25.4,-6.664 25.4,-6.664 25.4,-4.124 -25.4,-4.124 -25.4,-6.664
Mechanical 9:
  drawing of 60 lines, arcs and shapes, not listed

## HDR-TH_2011-3X25G00RB [mm] "HDR-TH_2011-3X25G00RB"
height -909.212
pads (75):
  rrect25% 1.6x1.6 hole 1.02 mask+0.05: 1(-30.48,-2.54)
  round 1.6 hole 1.02 mask+0.05: 2(-30.48,0) 3(-30.48,2.54) 4(-27.94,-2.54) 5(-27.94,0) 6(-27.94,2.54) 7(-25.4,-2.54) 8(-25.4,0) 9(-25.4,2.54) 10(-22.86,-2.54) 11(-22.86,0) 12(-22.86,2.54) 13(-20.32,-2.54) 14(-20.32,0) 15(-20.32,2.54) 16(-17.78,-2.54) 17(-17.78,0) 18(-17.78,2.54) 19(-15.24,-2.54) 20(-15.24,0) 21(-15.24,2.54) 22(-12.7,-2.54) 23(-12.7,0) 24(-12.7,2.54) 25(-10.16,-2.54) 26(-10.16,0) 27(-10.16,2.54) 28(-7.62,-2.54) 29(-7.62,0) 30(-7.62,2.54) 31(-5.08,-2.54) 32(-5.08,0) 33(-5.08,2.54) 34(-2.54,-2.54) 35(-2.54,0) 36(-2.54,2.54) 37(0,-2.54) 38(0,0) 39(0,2.54) 40(2.54,-2.54) 41(2.54,0) 42(2.54,2.54) 43(5.08,-2.54) 44(5.08,0) 45(5.08,2.54) 46(7.62,-2.54) 47(7.62,0) 48(7.62,2.54) 49(10.16,-2.54) 50(10.16,0) 51(10.16,2.54) 52(12.7,-2.54) 53(12.7,0) 54(12.7,2.54) 55(15.24,-2.54) 56(15.24,0) 57(15.24,2.54) 58(17.78,-2.54) 59(17.78,0) 60(17.78,2.54) 61(20.32,-2.54) 62(20.32,0) 63(20.32,2.54) 64(22.86,-2.54) 65(22.86,0) 66(22.86,2.54) 67(25.4,-2.54) 68(25.4,0) 69(25.4,2.54) 70(27.94,-2.54) 71(27.94,0) 72(27.94,2.54) 73(30.48,-2.54) 74(30.48,0) 75(30.48,2.54)
Top Overlay:
  region: -31.72,-6.477 -31.721,-6.471 -31.722,-6.466 -31.725,-6.46 -31.729,-6.456 -31.733,-6.452 -31.739,-6.449 -31.744,-6.448 -31.75,-6.447 -31.756,-6.448 -31.761,-6.449 -31.767,-6.452 -31.771,-6.456 -31.775,-6.46 -31.778,-6.466 -31.779,-6.471 -31.78,-6.477 -31.779,-6.483 -31.778,-6.489 -31.775,-6.494 -31.771,-6.498 -31.767,-6.502 -31.761,-6.505 -31.756,-6.507 -31.75,-6.507 -31.744,-6.507 -31.739,-6.505 -31.733,-6.502 -31.729,-6.498 -31.725,-6.494 -31.722,-6.489 -31.721,-6.483
  lines w0.254: -30.503,-12.441 -30.503,-6.441 ; -27.963,-12.441 -27.963,-6.441 ; -25.423,-12.441 -25.423,-6.441 ; -22.884,-12.441 -22.884,-6.441 ; -20.344,-12.441 -20.344,-6.441 ; -17.804,-12.441 -17.804,-6.441 ; -15.264,-12.441 -15.264,-6.441 ; -12.724,-12.441 -12.724,-6.441 ; -10.184,-12.441 -10.184,-6.441 ; -7.644,-12.441 -7.644,-6.441 ; -5.104,-12.441 -5.104,-6.441 ; -2.564,-12.441 -2.564,-6.441 ; -0.024,-12.441 -0.024,-6.441 ; 2.516,-12.441 2.516,-6.441 ; 5.056,-12.441 5.056,-6.441 ; 7.596,-12.441 7.596,-6.441 ; 10.136,-12.441 10.136,-6.441 ; 12.676,-12.441 12.676,-6.441 ; 15.216,-12.441 15.216,-6.441 ; 17.756,-12.441 17.756,-6.441 ; 20.296,-12.441 20.296,-6.441 ; 22.836,-12.441 22.836,-6.441 ; 25.376,-12.441 25.376,-6.441 ; 27.916,-12.441 27.916,-6.441 ; 30.456,-12.441 30.456,-6.441 ; -31.75,-6.441 -31.75,-3.941 31.75,-3.941 31.75,-6.441 -31.75,-6.441
Mechanical 2:
  drawing of 25 lines, arcs and shapes, not listed
Mechanical 9:
  drawing of 75 lines, arcs and shapes, not listed

## PCBComponent_1 [mm]